# EAGLE library part NETZMODUL_EXELEC_2W (library Trafo)
Netzmodul EX-ELEC 2*Us, 2W
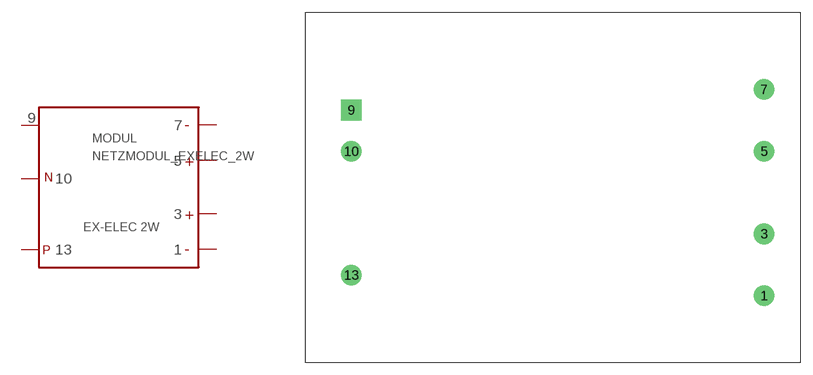
[diagram p6: symbol with the pads of NETZMODUL_2W; footprint NETZMODUL_2W]

Designator prefix MODUL

## NETZMODUL_EXELEC_2W  [NETZMODUL_2W]
1  1  pas
3  3  pas
5  5  pas
7  7  pas
9  9  pas
10  10  pas
13  13  pas

## Footprint NETZMODUL_2W (pad centres in mm)
Netzmodul EX-ELEC 2*Us, 2W
drill 1 pad 2.54: 1 49.53,-25.4; 3 49.53,-17.78; 5 49.53,-7.62; 7 49.53,0; 10 -1.27,-7.62; 13 -1.27,-22.86
drill 1 pad 2.54 square: 9 -1.27,-2.54